# Altium footprint library VLP-Series.PcbLib: 1 footprints
Each footprint in its own frame and in the unit in brackets; x right, y up, seen from the top. Pads: shape width x height; smd on the part's side, far side on the other; paste and mask are expansions set on the pad; w line width, h text height; cw(c..) or ccw(c..) is an arc to the next point about the centre after c.
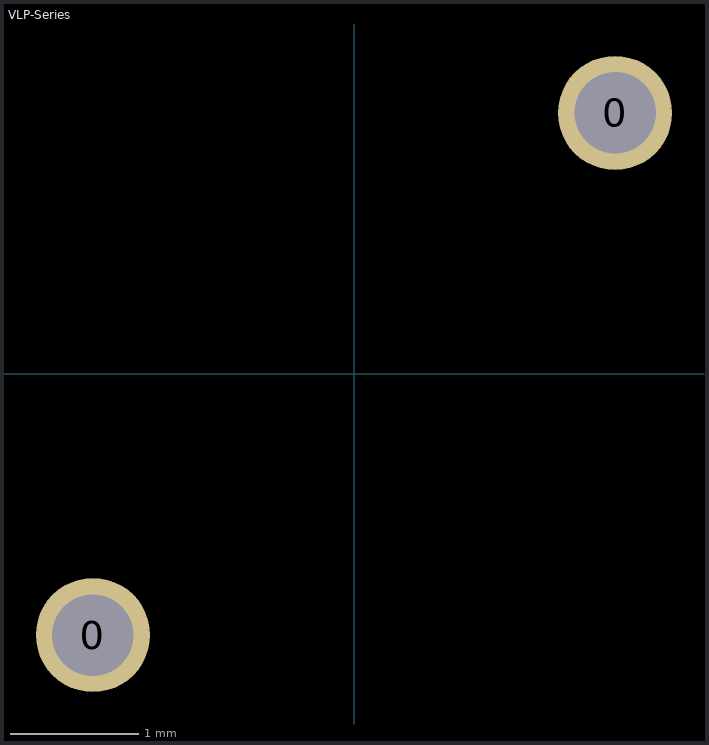
[diagram p0: the footprint, top view; thin cyan lines are the x and y axes]

## VLP-Series [mil]
pads (2):
  round 35 hole 25: 0(-80,-80) 0(80,80)
3D body: height 302.91, standoff -55.35, extent -92.51,-92.52 92.52,92.52